# Altium footprint library Knopka.PcbLib: 58 footprints (part 4 of 4)
Each footprint in its own frame and in the unit in brackets; x right, y up, seen from the top. Pads: shape width x height; smd on the part's side, far side on the other; paste and mask are expansions set on the pad; w line width, h text height; cw(c..) or ccw(c..) is an arc to the next point about the centre after c.
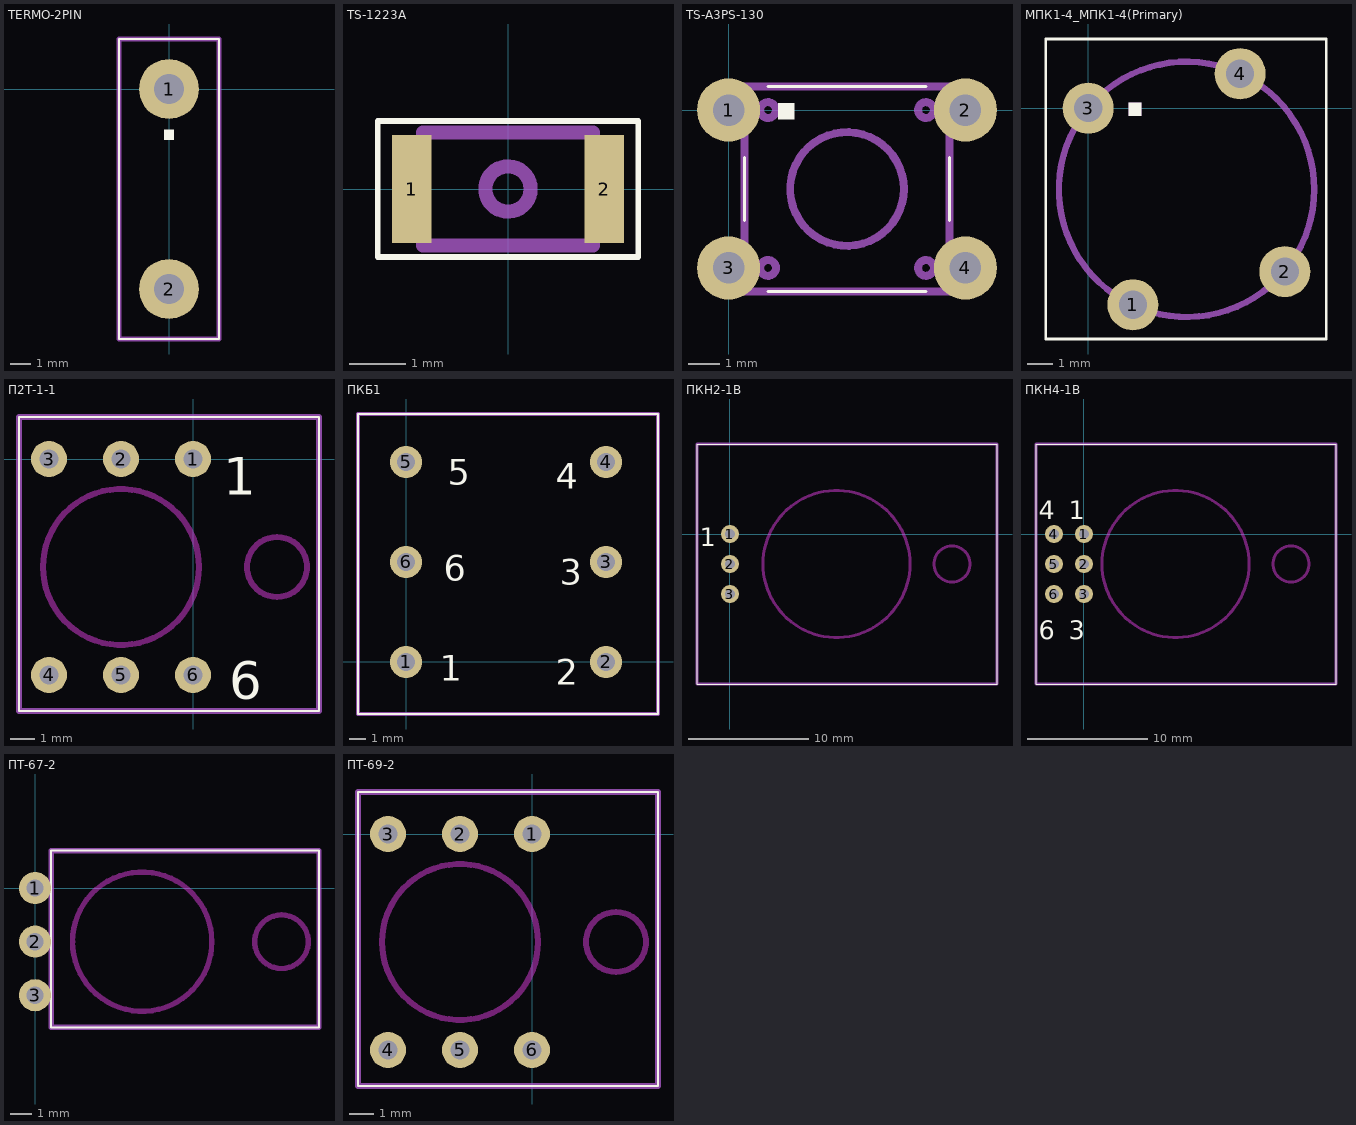
[diagram p3: the footprints below, top view; thin cyan lines are the x and y axes]

## TERMO-2PIN [mm]
pads (2):
  round 3 hole 1.5: 1(0,0) 2(0,-10)
Top Overlay:
  region: -0.25,-2.54 0.25,-2.54 0.25,-2.04 -0.25,-2.04
  lines w0.1: -2.5,-12.5 2.5,-12.5 2.5,2.5 -2.5,2.5 -2.5,-12.5
Mechanical 1:
  lines w0.25: -2.5,-12.5 2.5,-12.5 2.5,2.5 -2.5,2.5 -2.5,-12.5

## TS-1223A [mm]
pads (2):
  rect 0.7x1.9 smd: 1(-1.7,0) 2(1.7,0)
Top Overlay:
  lines w0.1: -2.3,-1.2 2.3,-1.2 2.3,1.2 -2.3,1.2 -2.3,-1.2
Mechanical 1:
  circle w0.25: c0,0 r0.4
  lines w0.25: -1.5,-1 1.5,-1 1.5,1 -1.5,1 -1.5,-1

## TS-A3PS-130 [mm]
pads (4):
  round 2 hole 1: 1(0,0) 2(7.5,0) 3(0,-5) 4(7.5,-5)
Top Overlay:
  region: 1.58,0.21 1.58,-0.29 2.08,-0.29 2.08,0.21
  lines w0.1: 0.5,-3.5 0.5,-1.5 ; 1.25,-5.75 6.25,-5.75 ; 1.25,0.75 6.25,0.75 ; 7,-3.5 7,-1.5
Mechanical 1:
  circle w0.25: c3.75,-2.5 r1.8
  circle w0.25: c6.25,0 r0.25
  circle w0.25: c6.25,-5 r0.25
  circle w0.25: c1.25,0 r0.25
  circle w0.25: c1.25,-5 r0.25
  lines w0.25: 0.5,-5.75 7,-5.75 7,0.75 0.5,0.75 0.5,-5.75

## МПК1-4_МПК1-4(Primary) [mm]
pads (4):
  round 2 hole 1.1: 1(1.75,-7.7) 2(7.7,-6.4) 3(0,0) 4(5.95,1.35)
Top Overlay:
  region: 1.58,0.21 1.58,-0.29 2.08,-0.29 2.08,0.21
  lines w0.1: -1.67,-9.04 9.33,-9.04 9.33,2.71 -1.67,2.71 -1.67,-9.04
Mechanical 1:
  circle w0.25: c3.853,-3.18 r5
  region: 1.58,0.21 1.58,-0.29 2.08,-0.29 2.08,0.21

## П2Т-1-1 [mm]
pads (6):
  round 1.5 hole 0.8: 1(0,0) 2(-3,0) 3(-6,0) 4(-6,-9) 5(-3,-9) 6(0,-9)
Top Overlay:
  lines w0.1: -7.25,-10.5 5.25,-10.5 5.25,1.75 -7.25,1.75 -7.25,-10.5
  text "6" at 1.5,-10 h1.56
  text "1" at 1.25,-1.5 h1.56
Keep-Out Layer:
  lines w0.25: -6.25,-4.5 cw(c-3,-4.5) 0.25,-4.5 cw(c-3,-4.5) -6.25,-4.5 ; 3.5,-5.75 cw(c3.5,-4.5) 3.5,-3.25 cw(c3.5,-4.5) 3.5,-5.75
Mechanical 1:
  lines w0.25: -7.25,-10.5 5.25,-10.5 5.25,1.75 -7.25,1.75 -7.25,-10.5
  text "6" at 1.75,-10.04 h1.56
  text "1" at 1.5,-1.54 h1.56

## ПКБ1 [mm]
pads (6):
  round 2 hole 1.1: 1(0,0) 2(12.5,0) 3(12.5,6.25) 4(12.5,12.5) 5(0,12.5) 6(0,6.25)
Top Overlay:
  lines w0.1: -3,-3.25 15.75,-3.25 15.75,15.5 -3,15.5 -3,-3.25
  text "4" at 9.37,10.83 h1.59
  text "3" at 9.62,4.83 h1.59
  text "5" at 2.62,11.08 h1.59
  text "6" at 2.37,5.08 h1.59
  text "2" at 9.37,-1.42 h1.59
  text "1" at 2.12,-1.17 h1.59
Mechanical 1:
  lines w0.25: -3,-3.25 15.75,-3.25 15.75,15.5 -3,15.5 -3,-3.25
  text "4" at 9.12,10.83 h1.59
  text "3" at 9.37,4.83 h1.59
  text "5" at 2.37,11.08 h1.59
  text "6" at 2.12,5.08 h1.59
  text "2" at 9.12,-1.42 h1.59
  text "1" at 1.87,-1.17 h1.59

## ПКН2-1В [mm]
pads (3):
  round 1.5 hole 0.8: 1(0,0) 2(0,-2.5) 3(0,-5)
Top Overlay:
  lines w0.1: -2.75,-12.5 22.25,-12.5 22.25,7.5 -2.75,7.5 -2.75,-12.5
  text "1" at -2.5,-1 h1.56
Keep-Out Layer:
  lines w0.25: 2.75,-2.5 cw(c8.875,-2.5) 15,-2.5 cw(c8.875,-2.5) 2.75,-2.5 ; 18.5,-4 cw(c18.5,-2.5) 18.5,-1 cw(c18.5,-2.5) 18.5,-4
Mechanical 1:
  lines w0.25: -2.75,-12.5 22.25,-12.5 22.25,7.5 -2.75,7.5 -2.75,-12.5
  text "1" at -2.59,-1.04 h1.56

## ПКН4-1В [mm]
pads (6):
  round 1.5 hole 0.8: 1(0,0) 2(0,-2.5) 3(0,-5) 4(-2.5,0) 5(-2.5,-2.5) 6(-2.5,-5)
Top Overlay:
  lines w0.1: -4,-12.5 21,-12.5 21,7.5 -4,7.5 -4,-12.5
  text "1" at -1.25,1.25 h1.56
  text "3" at -1.25,-8.75 h1.56
  text "4" at -3.75,1.25 h1.56
  text "6" at -3.75,-8.75 h1.56
Keep-Out Layer:
  lines w0.25: 1.5,-2.5 cw(c7.625,-2.5) 13.75,-2.5 cw(c7.625,-2.5) 1.5,-2.5 ; 17.25,-4 ccw(c17.25,-2.5) 17.25,-1 ccw(c17.25,-2.5) 17.25,-4
Mechanical 1:
  lines w0.25: -4,-12.5 21,-12.5 21,7.5 -4,7.5 -4,-12.5
  text "1" at -1,1.25 h1.56
  text "3" at -1,-8.75 h1.56
  text "4" at -3.5,1.25 h1.56
  text "6" at -3.5,-8.75 h1.56

## ПТ-67-2 [mm]
pads (3):
  round 1.5 hole 0.8: 1(0,0) 2(0,-2.5) 3(0,-5)
Top Overlay:
  lines w0.1: 0.75,-6.5 13.25,-6.5 13.25,1.75 0.75,1.75 0.75,-6.5
Keep-Out Layer:
  lines w0.25: 1.75,-2.5 cw(c5,-2.5) 8.25,-2.5 cw(c5,-2.5) 1.75,-2.5 ; 11.5,-3.75 ccw(c11.5,-2.5) 11.5,-1.25 ccw(c11.5,-2.5) 11.5,-3.75
Mechanical 1:
  lines w0.25: 0.75,-6.5 13.25,-6.5 13.25,1.75 0.75,1.75 0.75,-6.5
  text "1" at -2.5,-1.25 h1.56

## ПТ-69-2 [mm]
pads (6):
  round 1.5 hole 0.8: 1(0,0) 2(-3,0) 3(-6,0) 4(-6,-9) 5(-3,-9) 6(0,-9)
Top Overlay:
  lines w0.1: -7.25,-10.5 5.25,-10.5 5.25,1.75 -7.25,1.75 -7.25,-10.5
Keep-Out Layer:
  lines w0.25: -6.25,-4.5 cw(c-3,-4.5) 0.25,-4.5 cw(c-3,-4.5) -6.25,-4.5 ; 3.5,-5.75 cw(c3.5,-4.5) 3.5,-3.25 cw(c3.5,-4.5) 3.5,-5.75
Mechanical 1:
  lines w0.25: -7.25,-10.5 5.25,-10.5 5.25,1.75 -7.25,1.75 -7.25,-10.5
  text "6" at 1.5,-10 h1.56
  text "1" at 1.25,-1.5 h1.56